# Altium integrated library TI Power Management Power Modules.IntLib: 831 symbols (part 27 of 44)
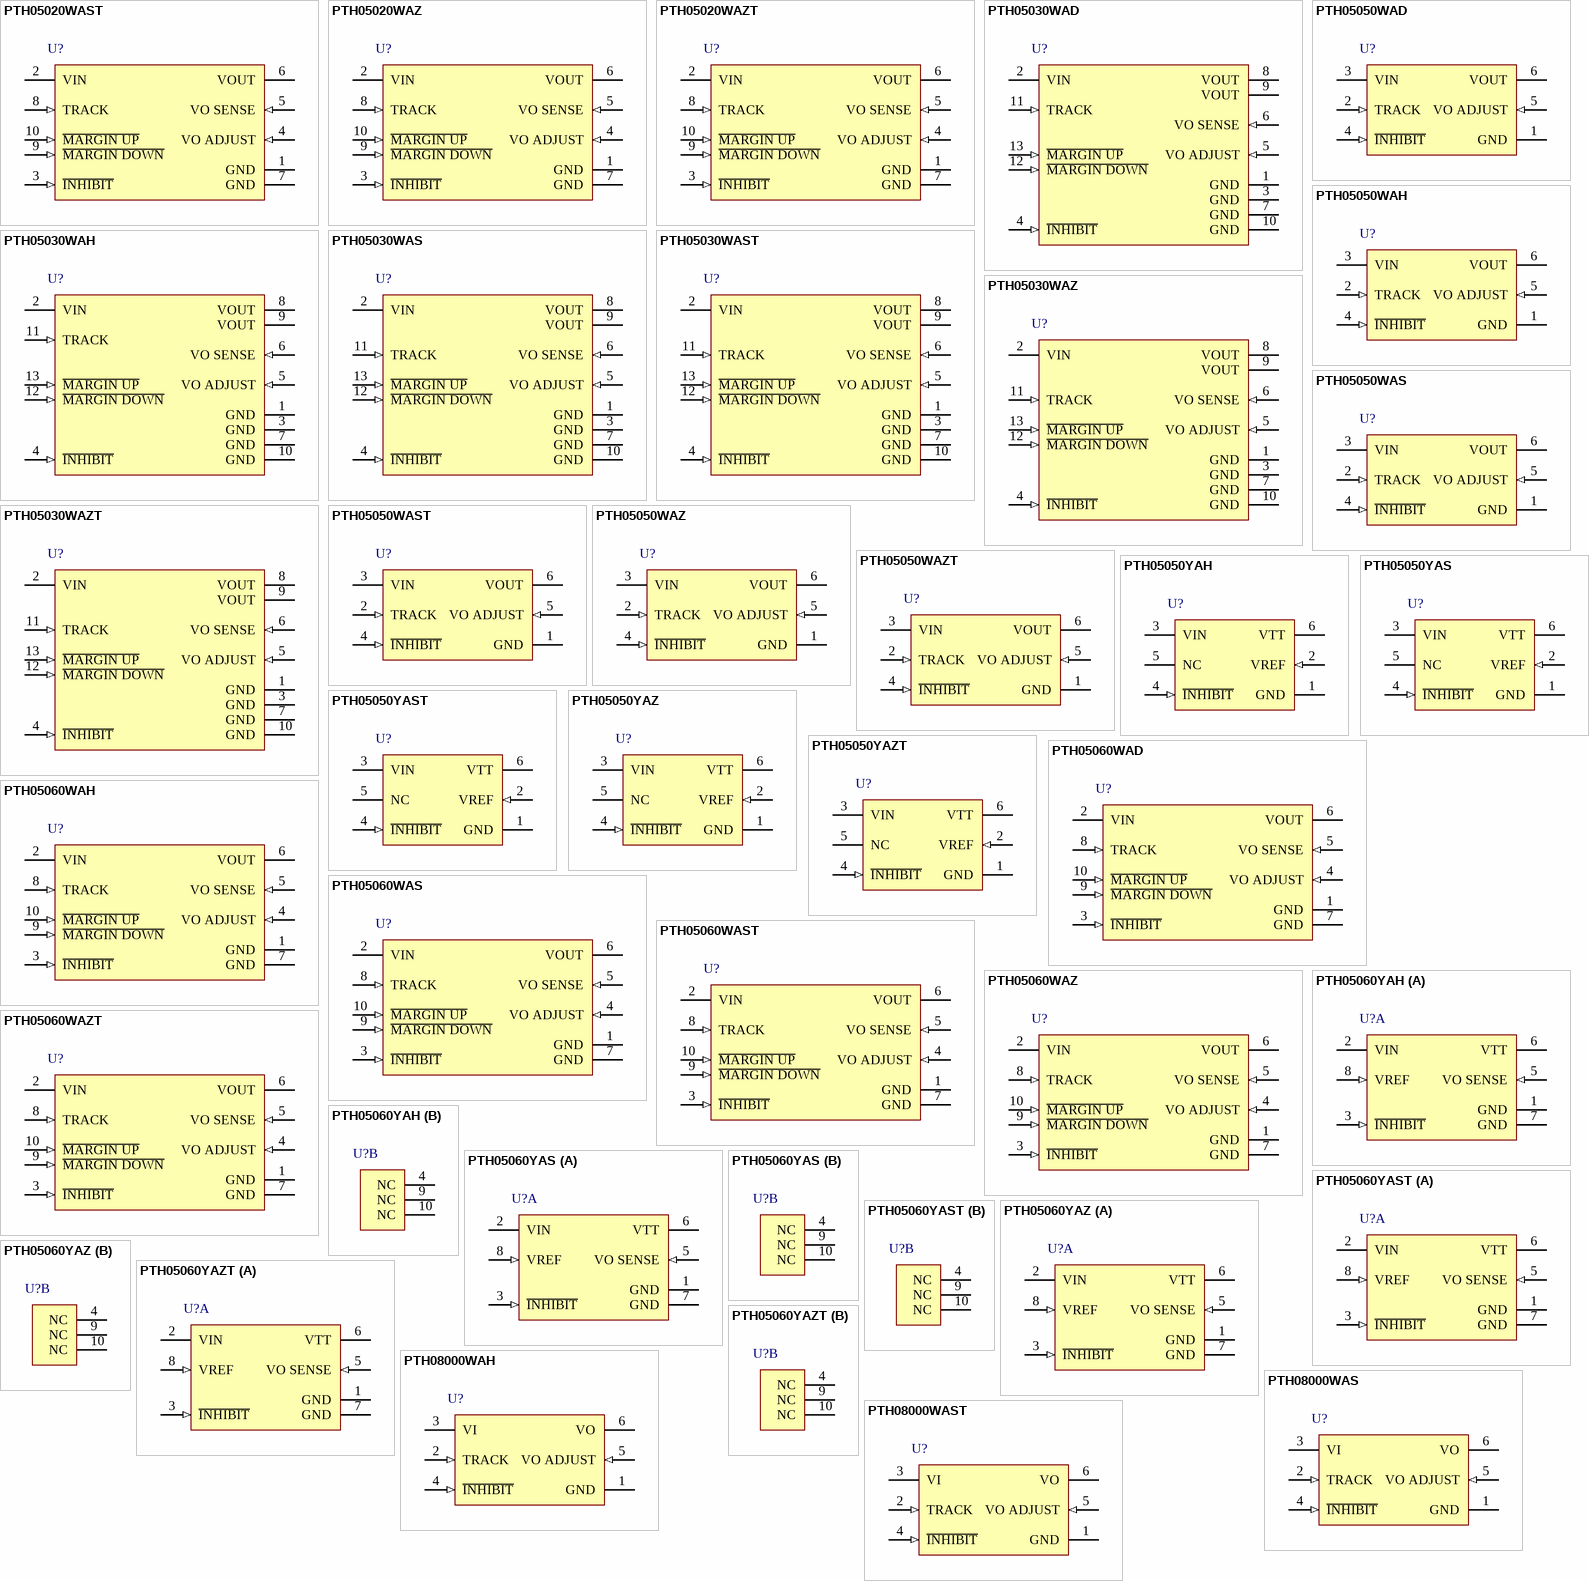
[diagram p49: symbols PTH05020WAST to PTH08000WAST]

## PTH05030WAS
designator U?
30 A, 5 V Input Wide-Output Adjust Plug-in Power Module, -40 to 85 degC, 13-pin Module (EUN13); Manufacturer: Texas Instruments; PartNumber: PTH05030WAS; Eco-Plan: TBD; Iout(Max)(A): 30; Regulated Outputs(#): 1; SubFamily: Non-Isolated POL; Vin(Max)(V): 5.5; Vin(Min)(V): 4.5; VO Adjustable: TRUE; Vout(Max)(V): 3.6; Vout(Min)(V): 0.8; DatasheetVersion: SLTS210B; PackageVersion: 4204989/B; PackageReference: EUN13; PackageDescription: 13-Pin Plastic Special Shape. Body 28.45 x 34.8 mm; Supplier 1: Digi-Key; Supplier Part Number 1: 296-20412-ND; Supplier 2: Farnell; Supplier Part Number 2: 1103296; Supplier 3: Newark; Supplier Part Number 3: 01J0635; Supplier 4: Mouser; Supplier Part Number 4: 595-PTH05030WAS; Mounting Technology: Surface Mount; ComponentLink1Description: Manufacturer URL; ComponentLink1URL: http://www.ti.com/; ComponentLink2Description: Datasheet; ComponentLink2URL: http://www.ti.com/general/docs/lit/getliterature.tsp?genericPartNumber=PTH05030W&fileType=pdf; ComponentLink3Description: Package Specification; ComponentLink3URL: http://www.ti.com/lit/ml/mpds135a/mpds135a.pdf; ComponentLink4Description: URL Link1; ComponentLink4URL: Samples URL:http://www.ti.com/product/pth05030w#samples
footprint TI-EUN13_V (Module, 13-Leads, Body 34.8x28.45mm)
pins: 1 GND (power) "This is the common ground connection for the Vin and Vout power connections. It is also the 0 VDC reference for the control inputs.", 2 VIN (power) "The positive input voltage power node to the module, which is referenced to common GND.", 3 GND (power) "This is the common ground connection for the Vin and Vout power connections. It is also the 0 VDC reference for the control inputs.", 4 ~{INHIBIT} (in) "The Inhibit pin is an open-collector/drain negative logic input that is referenced to GND. Applying a lowlevel ground signal to this input disables the module’s output and turns off the output voltage. When the Inhibit (See Datasheet)", 5 VO ADJUST (in) "A 0.1 W 1 % resistor must be directly connected between this pin and pin 7 (GND) to set the output voltage to a value higher than 0.8 V. The temperature stability of the resistor should be 100 ppm/degreesC (or better). The (See Datasheet)", 6 VO SENSE (in) "The sense input allows the regulation circuit to compensate for voltage drop between the module and the load. For optimal voltage accuracy Vo Sense should be connected to Vout. It can also be left disconnected.", 7 GND (power) "This is the common ground connection for the Vin and Vout power connections. It is also the 0 VDC reference for the control inputs.", 8 VOUT (power) "The regulated positive power output with respect to the GND node.", 9 VOUT (power) "The regulated positive power output with respect to the GND node.", 10 GND (power) "This is the common ground connection for the Vin and Vout power connections. It is also the 0 VDC reference for the control inputs.", 11 TRACK (in) "This is an analog control input that enables the output voltage to follow an external voltage. This pin becomes active typically 20 ms after the input voltage has been applied, and allows direct control of the output voltage (See Datasheet)", 12 ~{MARGIN DOWN} (in) "When this input is asserted to GND, the output voltage is decreased by 5% from the nominal. The input requires an open-collector (open-drain) interface. It is not TTL compatible. A lower percent change can be accomodated (See Datasheet)", 13 ~{MARGIN UP} (in) "When this input is asserted to GND, the output voltage is increased by 5%. The input requires an open-collector (open-drain) interface. It is not TTL compatible. The percent change can be reduced with a series resistor. For (See Datasheet)"

## PTH05030WAST
designator U?
30 A, 5 V Input Wide-Output Adjust Plug-in Power Module, -40 to 85 degC, 13-pin Module (EUN13); Manufacturer: Texas Instruments; PartNumber: PTH05030WAST; Eco-Plan: TBD; Iout(Max)(A): 30; Regulated Outputs(#): 1; SubFamily: Non-Isolated POL; Vin(Max)(V): 5.5; Vin(Min)(V): 4.5; VO Adjustable: TRUE; Vout(Max)(V): 3.6; Vout(Min)(V): 0.8; DatasheetVersion: SLTS210B; PackageVersion: 4204989/B; PackageReference: EUN13; PackageDescription: 13-Pin Plastic Special Shape. Body 28.45 x 34.8 mm; Supplier 1: Digi-Key; Supplier Part Number 1: PTH05030WAST-ND; Supplier 2: Newark; Supplier Part Number 2: 01J0636; Supplier 3: Mouser; Supplier Part Number 3: 595-PTH05030WAST; Mounting Technology: Surface Mount; ComponentLink1Description: Manufacturer URL; ComponentLink1URL: http://www.ti.com/; ComponentLink2Description: Datasheet; ComponentLink2URL: http://www.ti.com/general/docs/lit/getliterature.tsp?genericPartNumber=PTH05030W&fileType=pdf; ComponentLink3Description: Package Specification; ComponentLink3URL: http://www.ti.com/lit/ml/mpds135a/mpds135a.pdf; ComponentLink4Description: URL Link1; ComponentLink4URL: Samples URL:http://www.ti.com/product/pth05030w#samples
footprint TI-EUN13_V (Module, 13-Leads, Body 34.8x28.45mm)
pins: 1 GND (power) "This is the common ground connection for the Vin and Vout power connections. It is also the 0 VDC reference for the control inputs.", 2 VIN (power) "The positive input voltage power node to the module, which is referenced to common GND.", 3 GND (power) "This is the common ground connection for the Vin and Vout power connections. It is also the 0 VDC reference for the control inputs.", 4 ~{INHIBIT} (in) "The Inhibit pin is an open-collector/drain negative logic input that is referenced to GND. Applying a lowlevel ground signal to this input disables the module’s output and turns off the output voltage. When the Inhibit (See Datasheet)", 5 VO ADJUST (in) "A 0.1 W 1 % resistor must be directly connected between this pin and pin 7 (GND) to set the output voltage to a value higher than 0.8 V. The temperature stability of the resistor should be 100 ppm/degreesC (or better). The (See Datasheet)", 6 VO SENSE (in) "The sense input allows the regulation circuit to compensate for voltage drop between the module and the load. For optimal voltage accuracy Vo Sense should be connected to Vout. It can also be left disconnected.", 7 GND (power) "This is the common ground connection for the Vin and Vout power connections. It is also the 0 VDC reference for the control inputs.", 8 VOUT (power) "The regulated positive power output with respect to the GND node.", 9 VOUT (power) "The regulated positive power output with respect to the GND node.", 10 GND (power) "This is the common ground connection for the Vin and Vout power connections. It is also the 0 VDC reference for the control inputs.", 11 TRACK (in) "This is an analog control input that enables the output voltage to follow an external voltage. This pin becomes active typically 20 ms after the input voltage has been applied, and allows direct control of the output voltage (See Datasheet)", 12 ~{MARGIN DOWN} (in) "When this input is asserted to GND, the output voltage is decreased by 5% from the nominal. The input requires an open-collector (open-drain) interface. It is not TTL compatible. A lower percent change can be accomodated (See Datasheet)", 13 ~{MARGIN UP} (in) "When this input is asserted to GND, the output voltage is increased by 5%. The input requires an open-collector (open-drain) interface. It is not TTL compatible. The percent change can be reduced with a series resistor. For (See Datasheet)"

## PTH05030WAZ
designator U?
30 A, 5 V Input Wide-Output Adjust Plug-in Power Module, -40 to 85 degC, 13-pin Module (EUN13), Pb-Free (RoHS); Manufacturer: Texas Instruments; PartNumber: PTH05030WAZ; Iout(Max)(A): 30; Regulated Outputs(#): 1; SubFamily: Non-Isolated POL; Vin(Max)(V): 5.5; Vin(Min)(V): 4.5; VO Adjustable: TRUE; Vout(Max)(V): 3.6; Vout(Min)(V): 0.8; DatasheetVersion: SLTS210B; PackageVersion: 4204989/B; PackageReference: EUN13; PackageDescription: 13-Pin Plastic Special Shape. Body 28.45 x 34.8 mm; Supplier 1: Digi-Key; Supplier Part Number 1: 296-20413-ND; Supplier 2: Newark; Supplier Part Number 2: 37K0722; Supplier 3: Mouser; Supplier Part Number 3: 595-PTH05030WAZ; Eco-Plan: Pb-Free (RoHS); Mounting Technology: Surface Mount; ComponentLink1Description: Manufacturer URL; ComponentLink1URL: http://www.ti.com/; ComponentLink2Description: Datasheet; ComponentLink2URL: http://www.ti.com/general/docs/lit/getliterature.tsp?genericPartNumber=PTH05030W&fileType=pdf; ComponentLink3Description: Package Specification; ComponentLink3URL: http://www.ti.com/lit/ml/mpds135a/mpds135a.pdf; ComponentLink4Description: URL Link1; ComponentLink4URL: Samples URL:http://www.ti.com/product/pth05030w#samples
footprint TI-EUN13_V (Module, 13-Leads, Body 34.8x28.45mm)
pins: 1 GND (power) "This is the common ground connection for the Vin and Vout power connections. It is also the 0 VDC reference for the control inputs.", 2 VIN (power) "The positive input voltage power node to the module, which is referenced to common GND.", 3 GND (power) "This is the common ground connection for the Vin and Vout power connections. It is also the 0 VDC reference for the control inputs.", 4 ~{INHIBIT} (in) "The Inhibit pin is an open-collector/drain negative logic input that is referenced to GND. Applying a lowlevel ground signal to this input disables the module’s output and turns off the output voltage. When the Inhibit (See Datasheet)", 5 VO ADJUST (in) "A 0.1 W 1 % resistor must be directly connected between this pin and pin 7 (GND) to set the output voltage to a value higher than 0.8 V. The temperature stability of the resistor should be 100 ppm/degreesC (or better). The (See Datasheet)", 6 VO SENSE (in) "The sense input allows the regulation circuit to compensate for voltage drop between the module and the load. For optimal voltage accuracy Vo Sense should be connected to Vout. It can also be left disconnected.", 7 GND (power) "This is the common ground connection for the Vin and Vout power connections. It is also the 0 VDC reference for the control inputs.", 8 VOUT (power) "The regulated positive power output with respect to the GND node.", 9 VOUT (power) "The regulated positive power output with respect to the GND node.", 10 GND (power) "This is the common ground connection for the Vin and Vout power connections. It is also the 0 VDC reference for the control inputs.", 11 TRACK (in) "This is an analog control input that enables the output voltage to follow an external voltage. This pin becomes active typically 20 ms after the input voltage has been applied, and allows direct control of the output voltage (See Datasheet)", 12 ~{MARGIN DOWN} (in) "When this input is asserted to GND, the output voltage is decreased by 5% from the nominal. The input requires an open-collector (open-drain) interface. It is not TTL compatible. A lower percent change can be accomodated (See Datasheet)", 13 ~{MARGIN UP} (in) "When this input is asserted to GND, the output voltage is increased by 5%. The input requires an open-collector (open-drain) interface. It is not TTL compatible. The percent change can be reduced with a series resistor. For (See Datasheet)"

## PTH05030WAZT
designator U?
30 A, 5 V Input Wide-Output Adjust Plug-in Power Module, -40 to 85 degC, 13-pin Module (EUN13), Pb-Free (RoHS); Manufacturer: Texas Instruments; PartNumber: PTH05030WAZT; Iout(Max)(A): 30; Regulated Outputs(#): 1; SubFamily: Non-Isolated POL; Vin(Max)(V): 5.5; Vin(Min)(V): 4.5; VO Adjustable: TRUE; Vout(Max)(V): 3.6; Vout(Min)(V): 0.8; DatasheetVersion: SLTS210B; PackageVersion: 4204989/B; PackageReference: EUN13; PackageDescription: 13-Pin Plastic Special Shape. Body 28.45 x 34.8 mm; Supplier 1: Digi-Key; Supplier Part Number 1: PTH05030WAZT-ND; Supplier 2: Newark; Supplier Part Number 2: 37K0723; Supplier 3: Mouser; Supplier Part Number 3: 595-PTH05030WAZT; Eco-Plan: Pb-Free (RoHS); Mounting Technology: Surface Mount; ComponentLink1Description: Manufacturer URL; ComponentLink1URL: http://www.ti.com/; ComponentLink2Description: Datasheet; ComponentLink2URL: http://www.ti.com/general/docs/lit/getliterature.tsp?genericPartNumber=PTH05030W&fileType=pdf; ComponentLink3Description: Package Specification; ComponentLink3URL: http://www.ti.com/lit/ml/mpds135a/mpds135a.pdf; ComponentLink4Description: URL Link1; ComponentLink4URL: Samples URL:http://www.ti.com/product/pth05030w#samples
footprint TI-EUN13_V (Module, 13-Leads, Body 34.8x28.45mm)
pins: 1 GND (power) "This is the common ground connection for the Vin and Vout power connections. It is also the 0 VDC reference for the control inputs.", 2 VIN (power) "The positive input voltage power node to the module, which is referenced to common GND.", 3 GND (power) "This is the common ground connection for the Vin and Vout power connections. It is also the 0 VDC reference for the control inputs.", 4 ~{INHIBIT} (in) "The Inhibit pin is an open-collector/drain negative logic input that is referenced to GND. Applying a lowlevel ground signal to this input disables the module’s output and turns off the output voltage. When the Inhibit (See Datasheet)", 5 VO ADJUST (in) "A 0.1 W 1 % resistor must be directly connected between this pin and pin 7 (GND) to set the output voltage to a value higher than 0.8 V. The temperature stability of the resistor should be 100 ppm/degreesC (or better). The (See Datasheet)", 6 VO SENSE (in) "The sense input allows the regulation circuit to compensate for voltage drop between the module and the load. For optimal voltage accuracy Vo Sense should be connected to Vout. It can also be left disconnected.", 7 GND (power) "This is the common ground connection for the Vin and Vout power connections. It is also the 0 VDC reference for the control inputs.", 8 VOUT (power) "The regulated positive power output with respect to the GND node.", 9 VOUT (power) "The regulated positive power output with respect to the GND node.", 10 GND (power) "This is the common ground connection for the Vin and Vout power connections. It is also the 0 VDC reference for the control inputs.", 11 TRACK (in) "This is an analog control input that enables the output voltage to follow an external voltage. This pin becomes active typically 20 ms after the input voltage has been applied, and allows direct control of the output voltage (See Datasheet)", 12 ~{MARGIN DOWN} (in) "When this input is asserted to GND, the output voltage is decreased by 5% from the nominal. The input requires an open-collector (open-drain) interface. It is not TTL compatible. A lower percent change can be accomodated (See Datasheet)", 13 ~{MARGIN UP} (in) "When this input is asserted to GND, the output voltage is increased by 5%. The input requires an open-collector (open-drain) interface. It is not TTL compatible. The percent change can be reduced with a series resistor. For (See Datasheet)"

## PTH05050WAD
designator U?
6 A, 5 V Input Non-Isolated Wide Adjust Module with Auto-Track, -40 to 85 degC, 6-pin Module (EUU6), Pb-Free (RoHS); Manufacturer: Texas Instruments; PartNumber: PTH05050WAD; Iout(Max)(A): 6; Regulated Outputs(#): 1; SubFamily: Non-Isolated POL; Vin(Max)(V): 5.5; Vin(Min)(V): 4.5; VO Adjustable: TRUE; Vout(Max)(V): 3.6; Vout(Min)(V): 0.8; DatasheetVersion: SLTS213E; PackageVersion: 4205246-4/C; PackageReference: EUU6; PackageDescription: 6-Pin Plastic Special Shape, Body 12.57 x 22.1 mm; Supplier 1: Digi-Key; Supplier Part Number 1: PTH05050WADTI-ND; Supplier 2: Farnell; Supplier Part Number 2: 1103286; Supplier 3: Newark; Supplier Part Number 3: 97K7865; Supplier 4: Newark; Supplier Part Number 4: 58K6006; Supplier 5: Mouser; Supplier Part Number 5: 595-PTH05050WAD; Eco-Plan: Pb-Free (RoHS); Mounting Technology: Through Hole; ComponentLink1Description: Manufacturer URL; ComponentLink1URL: http://www.ti.com/; ComponentLink2Description: Datasheet; ComponentLink2URL: http://www.ti.com/general/docs/lit/getliterature.tsp?genericPartNumber=PTH05050W&fileType=pdf; ComponentLink3Description: Package Specification; ComponentLink3URL: http://www.ti.com/lit/ml/mpds142b/mpds142b.pdf; ComponentLink4Description: URL Link1; ComponentLink4URL: Samples URL:http://www.ti.com/product/pth05050w#samples
footprint TI-EUU6_V (Module, 6-Leads, Body 22.1.12x12.57mm)
pins: 1 GND (power) "This is the common ground connection for the VI and VO power connections. It is also the 0-VDC reference for the control inputs.", 2 TRACK (in) "This is an analog control input that enables the output voltage to follow an external voltage. This pin becomes active typically 20 ms after the input voltage has been applied, and allows direct control of the output voltage (See Datasheet)", 3 VIN (power) "The positive input voltage power node to the module, which is referenced to common GND.", 4 ~{INHIBIT} (in) "The Inhibit pin is an open-collector/drain negative logic input that is referenced to GND. Applying a low-level ground signal to this input disables the module’s output and turns off the output voltage. When the Inhibit (See Datasheet)", 5 VO ADJUST (in) "A 0.05 W 1% resistor must be directly connected between this pin and (GND) to set the output voltage to a value higher than 0.8 V. The temperature stability of the resistor should be 100 ppm/degreesC (or better). The set (See Datasheet)", 6 VOUT (power) "The regulated positive power output with respect to the GND node."

## PTH05050WAH
designator U?
6 A, 5 V Input Non-Isolated Wide Adjust Module with Auto-Track, -40 to 85 degC, 6-pin Module (EUU6), Pb-Free (RoHS); Manufacturer: Texas Instruments; PartNumber: PTH05050WAH; Iout(Max)(A): 6; Regulated Outputs(#): 1; SubFamily: Non-Isolated POL; Vin(Max)(V): 5.5; Vin(Min)(V): 4.5; VO Adjustable: TRUE; Vout(Max)(V): 3.6; Vout(Min)(V): 0.8; DatasheetVersion: SLTS213E; PackageVersion: 4205246-4/C; PackageReference: EUU6; PackageDescription: 6-Pin Plastic Special Shape, Body 12.57 x 22.1 mm; Supplier 1: Digi-Key; Supplier Part Number 1: 296-20414-ND; Supplier 2: Farnell; Supplier Part Number 2: 1212256; Supplier 3: Newark; Supplier Part Number 3: 83K8771; Supplier 4: Mouser; Supplier Part Number 4: 595-PTH05050WAH; Eco-Plan: Pb-Free (RoHS); Mounting Technology: Through Hole; ComponentLink1Description: Manufacturer URL; ComponentLink1URL: http://www.ti.com/; ComponentLink2Description: Datasheet; ComponentLink2URL: http://www.ti.com/general/docs/lit/getliterature.tsp?genericPartNumber=PTH05050W&fileType=pdf; ComponentLink3Description: Package Specification; ComponentLink3URL: http://www.ti.com/lit/ml/mpds142b/mpds142b.pdf; ComponentLink4Description: URL Link1; ComponentLink4URL: Samples URL:http://www.ti.com/product/pth05050w#samples
footprint TI-EUU6_V (Module, 6-Leads, Body 22.1.12x12.57mm)
pins: 1 GND (power) "This is the common ground connection for the VI and VO power connections. It is also the 0-VDC reference for the control inputs.", 2 TRACK (in) "This is an analog control input that enables the output voltage to follow an external voltage. This pin becomes active typically 20 ms after the input voltage has been applied, and allows direct control of the output voltage (See Datasheet)", 3 VIN (power) "The positive input voltage power node to the module, which is referenced to common GND.", 4 ~{INHIBIT} (in) "The Inhibit pin is an open-collector/drain negative logic input that is referenced to GND. Applying a low-level ground signal to this input disables the module’s output and turns off the output voltage. When the Inhibit (See Datasheet)", 5 VO ADJUST (in) "A 0.05 W 1% resistor must be directly connected between this pin and (GND) to set the output voltage to a value higher than 0.8 V. The temperature stability of the resistor should be 100 ppm/degreesC (or better). The set (See Datasheet)", 6 VOUT (power) "The regulated positive power output with respect to the GND node."

## PTH05050WAS
designator U?
6 A, 5 V Input Non-Isolated Wide Adjust Module with Auto-Track, -40 to 85 degC, 6-pin Module (EUV6); Manufacturer: Texas Instruments; PartNumber: PTH05050WAS; Eco-Plan: TBD; Iout(Max)(A): 6; Regulated Outputs(#): 1; SubFamily: Non-Isolated POL; Vin(Max)(V): 5.5; Vin(Min)(V): 4.5; VO Adjustable: TRUE; Vout(Max)(V): 3.6; Vout(Min)(V): 0.8; DatasheetVersion: SLTS213E; PackageVersion: 4205247-4/C; PackageReference: EUV6; PackageDescription: 6-Pin Plastic Special Shape, Body 12.57 x 22.1 mm; Supplier 1: Digi-Key; Supplier Part Number 1: 296-20415-ND; Supplier 2: Newark; Supplier Part Number 2: 90H3323; Supplier 3: Mouser; Supplier Part Number 3: 595-PTH05050WAS; Mounting Technology: Surface Mount; ComponentLink1Description: Manufacturer URL; ComponentLink1URL: http://www.ti.com/; ComponentLink2Description: Datasheet; ComponentLink2URL: http://www.ti.com/general/docs/lit/getliterature.tsp?genericPartNumber=PTH05050W&fileType=pdf; ComponentLink3Description: Package Specification; ComponentLink3URL: http://www.ti.com/lit/ml/mpds143b/mpds143b.pdf; ComponentLink4Description: URL Link1; ComponentLink4URL: Samples URL:http://www.ti.com/product/pth05050w#samples
footprint TI-EUV6_V (Module, 6-Leads, Body 22.1x12.57mm)
pins: 1 GND (power) "This is the common ground connection for the VI and VO power connections. It is also the 0-VDC reference for the control inputs.", 2 TRACK (in) "This is an analog control input that enables the output voltage to follow an external voltage. This pin becomes active typically 20 ms after the input voltage has been applied, and allows direct control of the output voltage (See Datasheet)", 3 VIN (power) "The positive input voltage power node to the module, which is referenced to common GND.", 4 ~{INHIBIT} (in) "The Inhibit pin is an open-collector/drain negative logic input that is referenced to GND. Applying a low-level ground signal to this input disables the module’s output and turns off the output voltage. When the Inhibit (See Datasheet)", 5 VO ADJUST (in) "A 0.05 W 1% resistor must be directly connected between this pin and (GND) to set the output voltage to a value higher than 0.8 V. The temperature stability of the resistor should be 100 ppm/degreesC (or better). The set (See Datasheet)", 6 VOUT (power) "The regulated positive power output with respect to the GND node."

## PTH05050WAST
designator U?
6 A, 5 V Input Non-Isolated Wide Adjust Module with Auto-Track, -40 to 85 degC, 6-pin Module (EUV6); Manufacturer: Texas Instruments; PartNumber: PTH05050WAST; Eco-Plan: TBD; Iout(Max)(A): 6; Regulated Outputs(#): 1; SubFamily: Non-Isolated POL; Vin(Max)(V): 5.5; Vin(Min)(V): 4.5; VO Adjustable: TRUE; Vout(Max)(V): 3.6; Vout(Min)(V): 0.8; DatasheetVersion: SLTS213E; PackageVersion: 4205247-4/C; PackageReference: EUV6; PackageDescription: 6-Pin Plastic Special Shape, Body 12.57 x 22.1 mm; Supplier 1: Digi-Key; Supplier Part Number 1: PTH05050WAST-ND; Supplier 2: Newark; Supplier Part Number 2: 01J0637; Supplier 3: Mouser; Supplier Part Number 3: 595-PTH05050WAST; Mounting Technology: Surface Mount; ComponentLink1Description: Manufacturer URL; ComponentLink1URL: http://www.ti.com/; ComponentLink2Description: Datasheet; ComponentLink2URL: http://www.ti.com/general/docs/lit/getliterature.tsp?genericPartNumber=PTH05050W&fileType=pdf; ComponentLink3Description: Package Specification; ComponentLink3URL: http://www.ti.com/lit/ml/mpds143b/mpds143b.pdf; ComponentLink4Description: URL Link1; ComponentLink4URL: Samples URL:http://www.ti.com/product/pth05050w#samples
footprint TI-EUV6_V (Module, 6-Leads, Body 22.1x12.57mm)
pins: 1 GND (power) "This is the common ground connection for the VI and VO power connections. It is also the 0-VDC reference for the control inputs.", 2 TRACK (in) "This is an analog control input that enables the output voltage to follow an external voltage. This pin becomes active typically 20 ms after the input voltage has been applied, and allows direct control of the output voltage (See Datasheet)", 3 VIN (power) "The positive input voltage power node to the module, which is referenced to common GND.", 4 ~{INHIBIT} (in) "The Inhibit pin is an open-collector/drain negative logic input that is referenced to GND. Applying a low-level ground signal to this input disables the module’s output and turns off the output voltage. When the Inhibit (See Datasheet)", 5 VO ADJUST (in) "A 0.05 W 1% resistor must be directly connected between this pin and (GND) to set the output voltage to a value higher than 0.8 V. The temperature stability of the resistor should be 100 ppm/degreesC (or better). The set (See Datasheet)", 6 VOUT (power) "The regulated positive power output with respect to the GND node."

## PTH05050WAZ
designator U?
6 A, 5 V Input Non-Isolated Wide Adjust Module with Auto-Track, -40 to 85 degC, 6-pin Module (EUV6), Pb-Free (RoHS); Manufacturer: Texas Instruments; PartNumber: PTH05050WAZ; Iout(Max)(A): 6; Regulated Outputs(#): 1; SubFamily: Non-Isolated POL; Vin(Max)(V): 5.5; Vin(Min)(V): 4.5; VO Adjustable: TRUE; Vout(Max)(V): 3.6; Vout(Min)(V): 0.8; DatasheetVersion: SLTS213E; PackageVersion: 4205247-4/C; PackageReference: EUV6; PackageDescription: 6-Pin Plastic Special Shape, Body 12.57 x 22.1 mm; Supplier 1: Digi-Key; Supplier Part Number 1: 296-20416-ND; Supplier 2: Farnell; Supplier Part Number 2: 1103287; Supplier 3: Newark; Supplier Part Number 3: 37K0724; Supplier 4: Mouser; Supplier Part Number 4: 595-PTH05050WAZ; Eco-Plan: Pb-Free (RoHS); Mounting Technology: Surface Mount; ComponentLink1Description: Manufacturer URL; ComponentLink1URL: http://www.ti.com/; ComponentLink2Description: Datasheet; ComponentLink2URL: http://www.ti.com/general/docs/lit/getliterature.tsp?genericPartNumber=PTH05050W&fileType=pdf; ComponentLink3Description: Package Specification; ComponentLink3URL: http://www.ti.com/lit/ml/mpds143b/mpds143b.pdf; ComponentLink4Description: URL Link1; ComponentLink4URL: Samples URL:http://www.ti.com/product/pth05050w#samples
footprint TI-EUV6_V (Module, 6-Leads, Body 22.1x12.57mm)
pins: 1 GND (power) "This is the common ground connection for the VI and VO power connections. It is also the 0-VDC reference for the control inputs.", 2 TRACK (in) "This is an analog control input that enables the output voltage to follow an external voltage. This pin becomes active typically 20 ms after the input voltage has been applied, and allows direct control of the output voltage (See Datasheet)", 3 VIN (power) "The positive input voltage power node to the module, which is referenced to common GND.", 4 ~{INHIBIT} (in) "The Inhibit pin is an open-collector/drain negative logic input that is referenced to GND. Applying a low-level ground signal to this input disables the module’s output and turns off the output voltage. When the Inhibit (See Datasheet)", 5 VO ADJUST (in) "A 0.05 W 1% resistor must be directly connected between this pin and (GND) to set the output voltage to a value higher than 0.8 V. The temperature stability of the resistor should be 100 ppm/degreesC (or better). The set (See Datasheet)", 6 VOUT (power) "The regulated positive power output with respect to the GND node."

## PTH05050WAZT
designator U?
6 A, 5 V Input Non-Isolated Wide Adjust Module with Auto-Track, -40 to 85 degC, 6-pin Module (EUV6), Pb-Free (RoHS); Manufacturer: Texas Instruments; PartNumber: PTH05050WAZT; Iout(Max)(A): 6; Regulated Outputs(#): 1; SubFamily: Non-Isolated POL; Vin(Max)(V): 5.5; Vin(Min)(V): 4.5; VO Adjustable: TRUE; Vout(Max)(V): 3.6; Vout(Min)(V): 0.8; DatasheetVersion: SLTS213E; PackageVersion: 4205247-4/C; PackageReference: EUV6; PackageDescription: 6-Pin Plastic Special Shape, Body 12.57 x 22.1 mm; Supplier 1: Digi-Key; Supplier Part Number 1: PTH05050WAZT-ND; Supplier 2: Newark; Supplier Part Number 2: 37K0725; Supplier 3: Mouser; Supplier Part Number 3: 595-PTH05050WAZT; Eco-Plan: Pb-Free (RoHS); Mounting Technology: Surface Mount; ComponentLink1Description: Manufacturer URL; ComponentLink1URL: http://www.ti.com/; ComponentLink2Description: Datasheet; ComponentLink2URL: http://www.ti.com/general/docs/lit/getliterature.tsp?genericPartNumber=PTH05050W&fileType=pdf; ComponentLink3Description: Package Specification; ComponentLink3URL: http://www.ti.com/lit/ml/mpds143b/mpds143b.pdf; ComponentLink4Description: URL Link1; ComponentLink4URL: Samples URL:http://www.ti.com/product/pth05050w#samples
footprint TI-EUV6_V (Module, 6-Leads, Body 22.1x12.57mm)
pins: 1 GND (power) "This is the common ground connection for the VI and VO power connections. It is also the 0-VDC reference for the control inputs.", 2 TRACK (in) "This is an analog control input that enables the output voltage to follow an external voltage. This pin becomes active typically 20 ms after the input voltage has been applied, and allows direct control of the output voltage (See Datasheet)", 3 VIN (power) "The positive input voltage power node to the module, which is referenced to common GND.", 4 ~{INHIBIT} (in) "The Inhibit pin is an open-collector/drain negative logic input that is referenced to GND. Applying a low-level ground signal to this input disables the module’s output and turns off the output voltage. When the Inhibit (See Datasheet)", 5 VO ADJUST (in) "A 0.05 W 1% resistor must be directly connected between this pin and (GND) to set the output voltage to a value higher than 0.8 V. The temperature stability of the resistor should be 100 ppm/degreesC (or better). The set (See Datasheet)", 6 VOUT (power) "The regulated positive power output with respect to the GND node."

## PTH05050YAH
designator U?
6 A, 5 V Input Bus Termination Power Module for DDR / QDR Memory, -40 to 85 degC, 6-pin Module (EUU6), Pb-Free (RoHS); Manufacturer: Texas Instruments; PartNumber: PTH05050YAH; Iout(Max)(A): 6; Regulated Outputs(#): 1; SubFamily: Non-Isolated POL; Vin(Max)(V): 5.5; Vin(Min)(V): 4.5; Vout(Max)(V): 1.8; Vout(Min)(V): 0.55; DatasheetVersion: SLTS221A; PackageVersion: 4205246-4/C; PackageReference: EUU6; PackageDescription: 6-Pin Plastic Special Shape, Body 12.57 x 22.1 mm; Supplier 1: Digi-Key; Supplier Part Number 1: 296-20417-ND; Supplier 2: Newark; Supplier Part Number 2: 01J0638; Supplier 3: Mouser; Supplier Part Number 3: 595-PTH05050YAH; Eco-Plan: Pb-Free (RoHS); Mounting Technology: Through Hole; ComponentLink1Description: Manufacturer URL; ComponentLink1URL: http://www.ti.com/; ComponentLink2Description: Datasheet; ComponentLink2URL: http://www.ti.com/general/docs/lit/getliterature.tsp?genericPartNumber=PTH05050Y&fileType=pdf; ComponentLink3Description: Package Specification; ComponentLink3URL: http://www.ti.com/lit/ml/mpds142b/mpds142b.pdf; ComponentLink4Description: URL Link1; ComponentLink4URL: Samples URL:http://www.ti.com/product/pth05050y#samples
footprint TI-EUU6_V (Module, 6-Leads, Body 22.1.12x12.57mm)
pins: 1 GND (power) "This is the common ground connection for the VIN and VTT power connections. It is also the 0-VDC reference for the control inputs.", 2 VREF (in) "The module senses the voltage at this input to regulate the output voltage, VTT. The voltage at VREF is also the reference voltage for the system bus receiver comparators. It is normally set to precisely half the bus driver (See Datasheet)", 3 VIN (power) "The positive input voltage power node to the module, which is referenced to common GND.", 4 ~{INHIBIT} (in) "The Inhibit pin is an open-collector/drain negative logic input that is referenced to GND. Applying a low-level ground signal to this input turns off the output voltage, VTT. Although the module is inhibited, a voltage, VDDQ (See Datasheet)", 5 NC "No Connection", 6 VTT (power) "This is the regulated power output from the module with respect to the GND node, and the tracking termination supply for the application data and address buses. It is precisely regulated to the voltage applied to the (See Datasheet)"

## PTH05050YAS
designator U?
6 A, 5 V Input Bus Termination Power Module for DDR / QDR Memory, -40 to 85 degC, 6-pin Module (EUV6); Manufacturer: Texas Instruments; PartNumber: PTH05050YAS; Eco-Plan: TBD; Iout(Max)(A): 6; Regulated Outputs(#): 1; SubFamily: Non-Isolated POL; Vin(Max)(V): 5.5; Vin(Min)(V): 4.5; Vout(Max)(V): 1.8; Vout(Min)(V): 0.55; DatasheetVersion: SLTS221A; PackageVersion: 4205247-4/C; PackageReference: EUV6; PackageDescription: 6-Pin Plastic Special Shape, Body 12.57 x 22.1 mm; Supplier 1: Digi-Key; Supplier Part Number 1: 296-20418-ND; Supplier 2: Newark; Supplier Part Number 2: 01J0639; Supplier 3: Mouser; Supplier Part Number 3: 595-PTH05050YAS; Mounting Technology: Surface Mount; ComponentLink1Description: Manufacturer URL; ComponentLink1URL: http://www.ti.com/; ComponentLink2Description: Datasheet; ComponentLink2URL: http://www.ti.com/general/docs/lit/getliterature.tsp?genericPartNumber=PTH05050Y&fileType=pdf; ComponentLink3Description: Package Specification; ComponentLink3URL: http://www.ti.com/lit/ml/mpds143b/mpds143b.pdf; ComponentLink4Description: URL Link1; ComponentLink4URL: Samples URL:http://www.ti.com/product/pth05050y#samples
footprint TI-EUV6_V (Module, 6-Leads, Body 22.1x12.57mm)
pins: 1 GND (power) "This is the common ground connection for the VIN and VTT power connections. It is also the 0-VDC reference for the control inputs.", 2 VREF (in) "The module senses the voltage at this input to regulate the output voltage, VTT. The voltage at VREF is also the reference voltage for the system bus receiver comparators. It is normally set to precisely half the bus driver (See Datasheet)", 3 VIN (power) "The positive input voltage power node to the module, which is referenced to common GND.", 4 ~{INHIBIT} (in) "The Inhibit pin is an open-collector/drain negative logic input that is referenced to GND. Applying a low-level ground signal to this input turns off the output voltage, VTT. Although the module is inhibited, a voltage, VDDQ (See Datasheet)", 5 NC "No Connection", 6 VTT (power) "This is the regulated power output from the module with respect to the GND node, and the tracking termination supply for the application data and address buses. It is precisely regulated to the voltage applied to the (See Datasheet)"

## PTH05050YAST
designator U?
6 A, 5 V Input Bus Termination Power Module for DDR / QDR Memory, -40 to 85 degC, 6-pin Module (EUV6); Manufacturer: Texas Instruments; PartNumber: PTH05050YAST; Eco-Plan: TBD; Iout(Max)(A): 6; Regulated Outputs(#): 1; SubFamily: Non-Isolated POL; Vin(Max)(V): 5.5; Vin(Min)(V): 4.5; Vout(Max)(V): 1.8; Vout(Min)(V): 0.55; DatasheetVersion: SLTS221A; PackageVersion: 4205247-4/C; PackageReference: EUV6; PackageDescription: 6-Pin Plastic Special Shape, Body 12.57 x 22.1 mm; Supplier 1: Digi-Key; Supplier Part Number 1: PTH05050YAST-ND; Supplier 2: Mouser; Supplier Part Number 2: 595-PTH05050YAST; Mounting Technology: Surface Mount; ComponentLink1Description: Manufacturer URL; ComponentLink1URL: http://www.ti.com/; ComponentLink2Description: Datasheet; ComponentLink2URL: http://www.ti.com/general/docs/lit/getliterature.tsp?genericPartNumber=PTH05050Y&fileType=pdf; ComponentLink3Description: Package Specification; ComponentLink3URL: http://www.ti.com/lit/ml/mpds143b/mpds143b.pdf; ComponentLink4Description: URL Link1; ComponentLink4URL: Samples URL:http://www.ti.com/product/pth05050y#samples
footprint TI-EUV6_V (Module, 6-Leads, Body 22.1x12.57mm)
pins: 1 GND (power) "This is the common ground connection for the VIN and VTT power connections. It is also the 0-VDC reference for the control inputs.", 2 VREF (in) "The module senses the voltage at this input to regulate the output voltage, VTT. The voltage at VREF is also the reference voltage for the system bus receiver comparators. It is normally set to precisely half the bus driver (See Datasheet)", 3 VIN (power) "The positive input voltage power node to the module, which is referenced to common GND.", 4 ~{INHIBIT} (in) "The Inhibit pin is an open-collector/drain negative logic input that is referenced to GND. Applying a low-level ground signal to this input turns off the output voltage, VTT. Although the module is inhibited, a voltage, VDDQ (See Datasheet)", 5 NC "No Connection", 6 VTT (power) "This is the regulated power output from the module with respect to the GND node, and the tracking termination supply for the application data and address buses. It is precisely regulated to the voltage applied to the (See Datasheet)"

## PTH05050YAZ
designator U?
6 A, 5 V Input Bus Termination Power Module for DDR / QDR Memory, -40 to 85 degC, 6-pin Module (EUV6), Pb-Free (RoHS); Manufacturer: Texas Instruments; PartNumber: PTH05050YAZ; Iout(Max)(A): 6; Regulated Outputs(#): 1; SubFamily: Non-Isolated POL; Vin(Max)(V): 5.5; Vin(Min)(V): 4.5; Vout(Max)(V): 1.8; Vout(Min)(V): 0.55; DatasheetVersion: SLTS221A; PackageVersion: 4205247-4/C; PackageReference: EUV6; PackageDescription: 6-Pin Plastic Special Shape, Body 12.57 x 22.1 mm; Supplier 1: Digi-Key; Supplier Part Number 1: 296-20419-ND; Supplier 2: Newark; Supplier Part Number 2: 37K0726; Supplier 3: Mouser; Supplier Part Number 3: 595-PTH05050YAZ; Eco-Plan: Pb-Free (RoHS); Mounting Technology: Surface Mount; ComponentLink1Description: Manufacturer URL; ComponentLink1URL: http://www.ti.com/; ComponentLink2Description: Datasheet; ComponentLink2URL: http://www.ti.com/general/docs/lit/getliterature.tsp?genericPartNumber=PTH05050Y&fileType=pdf; ComponentLink3Description: Package Specification; ComponentLink3URL: http://www.ti.com/lit/ml/mpds143b/mpds143b.pdf; ComponentLink4Description: URL Link1; ComponentLink4URL: Samples URL:http://www.ti.com/product/pth05050y#samples
footprint TI-EUV6_V (Module, 6-Leads, Body 22.1x12.57mm)
pins: 1 GND (power) "This is the common ground connection for the VIN and VTT power connections. It is also the 0-VDC reference for the control inputs.", 2 VREF (in) "The module senses the voltage at this input to regulate the output voltage, VTT. The voltage at VREF is also the reference voltage for the system bus receiver comparators. It is normally set to precisely half the bus driver (See Datasheet)", 3 VIN (power) "The positive input voltage power node to the module, which is referenced to common GND.", 4 ~{INHIBIT} (in) "The Inhibit pin is an open-collector/drain negative logic input that is referenced to GND. Applying a low-level ground signal to this input turns off the output voltage, VTT. Although the module is inhibited, a voltage, VDDQ (See Datasheet)", 5 NC "No Connection", 6 VTT (power) "This is the regulated power output from the module with respect to the GND node, and the tracking termination supply for the application data and address buses. It is precisely regulated to the voltage applied to the (See Datasheet)"

## PTH05050YAZT
designator U?
6 A, 5 V Input Bus Termination Power Module for DDR / QDR Memory, -40 to 85 degC, 6-pin Module (EUV6), Pb-Free (RoHS); Manufacturer: Texas Instruments; PartNumber: PTH05050YAZT; Iout(Max)(A): 6; Regulated Outputs(#): 1; SubFamily: Non-Isolated POL; Vin(Max)(V): 5.5; Vin(Min)(V): 4.5; Vout(Max)(V): 1.8; Vout(Min)(V): 0.55; DatasheetVersion: SLTS221A; PackageVersion: 4205247-4/C; PackageReference: EUV6; PackageDescription: 6-Pin Plastic Special Shape, Body 12.57 x 22.1 mm; Supplier 1: Digi-Key; Supplier Part Number 1: PTH05050YAZT-ND; Supplier 2: Newark; Supplier Part Number 2: 37K0727; Supplier 3: Mouser; Supplier Part Number 3: 595-PTH05050YAZT; Eco-Plan: Pb-Free (RoHS); Mounting Technology: Surface Mount; ComponentLink1Description: Manufacturer URL; ComponentLink1URL: http://www.ti.com/; ComponentLink2Description: Datasheet; ComponentLink2URL: http://www.ti.com/general/docs/lit/getliterature.tsp?genericPartNumber=PTH05050Y&fileType=pdf; ComponentLink3Description: Package Specification; ComponentLink3URL: http://www.ti.com/lit/ml/mpds143b/mpds143b.pdf; ComponentLink4Description: URL Link1; ComponentLink4URL: Samples URL:http://www.ti.com/product/tps55010#samples
footprint TI-EUV6_V (Module, 6-Leads, Body 22.1x12.57mm)
pins: 1 GND (power) "This is the common ground connection for the VIN and VTT power connections. It is also the 0-VDC reference for the control inputs.", 2 VREF (in) "The module senses the voltage at this input to regulate the output voltage, VTT. The voltage at VREF is also the reference voltage for the system bus receiver comparators. It is normally set to precisely half the bus driver (See Datasheet)", 3 VIN (power) "The positive input voltage power node to the module, which is referenced to common GND.", 4 ~{INHIBIT} (in) "The Inhibit pin is an open-collector/drain negative logic input that is referenced to GND. Applying a low-level ground signal to this input turns off the output voltage, VTT. Although the module is inhibited, a voltage, VDDQ (See Datasheet)", 5 NC "No Connection", 6 VTT (power) "This is the regulated power output from the module with respect to the GND node, and the tracking termination supply for the application data and address buses. It is precisely regulated to the voltage applied to the (See Datasheet)"

## PTH05060WAD
designator U?
10 A, 5 V Input Non-Isolated Wide Adjust Module, -40 to 85 degC, 10-pin Module (EUW10), Pb-Free (RoHS); Manufacturer: Texas Instruments; PartNumber: PTH05060WAD; Iout(Max)(A): 10; Regulated Outputs(#): 1; SubFamily: Non-Isolated POL; Vin(Max)(V): 5.5; Vin(Min)(V): 4.5; VO Adjustable: TRUE; Vout(Max)(V): 3.6; Vout(Min)(V): 0.8; DatasheetVersion: SLTS216B; PackageVersion: 4205248-3/B; PackageReference: EUW10; PackageDescription: 10-Pin Plastic Special Shape, Body 15.75 x 25.27 mm; Supplier 1: Digi-Key; Supplier Part Number 1: 296-26310-ND; Supplier 2: Farnell; Supplier Part Number 2: 1103288; Supplier 3: Newark; Supplier Part Number 3: 97K7867; Supplier 4: Newark; Supplier Part Number 4: 58K6007; Supplier 5: Mouser; Supplier Part Number 5: 595-PTH05060WAD; Eco-Plan: Pb-Free (RoHS); Mounting Technology: Through Hole; ComponentLink1Description: Manufacturer URL; ComponentLink1URL: http://www.ti.com/; ComponentLink2Description: Datasheet; ComponentLink2URL: http://www.ti.com/general/docs/lit/getliterature.tsp?genericPartNumber=PTH05060W&fileType=pdf; ComponentLink3Description: Package Specification; ComponentLink3URL: http://www.ti.com/litv/pdf/mpds144a; ComponentLink4Description: URL Link1; ComponentLink4URL: Samples URL:http://www.ti.com/product/pth05060w#samples
footprint TI-EUW10_V (Module, 10-Leads, Body 25.27x15.75mm)
pins: 1 GND (power) "This is the common ground connection for the Vin and Vout power connections. It is also the 0 VDC reference for the control inputs", 2 VIN (power) "The positive input voltage power node to the module, which is referenced to common GND.", 3 ~{INHIBIT} (in) "The Inhibit pin is an open-collector/drain negative logic input that is referenced to GND. Applying a lowlevel ground signal to this input disables the module’s output and turns off the output voltage. When the Inhibit (See Datasheet)", 4 VO ADJUST (in) "A 0.1 W 1 % resistor must be directly connected between this pin and pin 7 (GND) to set the output voltage to a value higher than 0.8 V. The temperature stability of the resistor should be 100 ppm/degreesC (or better). The (See Datasheet)", 5 VO SENSE (in) "The sense input allows the regulation circuit to compensate for voltage drop between the module and the load. For optimal voltage accuracy Vo Sense should be connected to Vout. It can also be left disconnected.", 6 VOUT (power) "The regulated positive power output with respect to the GND node.", 7 GND (power) "This is the common ground connection for the Vin and Vout power connections. It is also the 0 VDC reference for the control inputs.", 8 TRACK (in) "This is an analog control input that enables the output voltage to follow an external voltage. This pin becomes active typically 20 ms after the input voltage has been applied, and allows direct control of the output voltage (See Datasheet)", 9 ~{MARGIN DOWN} (in) "When this input is asserted to GND, the output voltage is decreased by 5% from the nominal. The input requires an open-collector (open-drain) interface. It is not TTL compatible. A lower percent change can be accomodated (See Datasheet)", 10 ~{MARGIN UP} (in) "When this input is asserted to GND, the output voltage is increased by 5%. The input requires an open-collector (open-drain) interface. It is not TTL compatible. The percent change can be reduced with a series resistor. For (See Datasheet)"

## PTH05060WAH
designator U?
10 A, 5 V Input Non-Isolated Wide Adjust Module, -40 to 85 degC, 10-pin Module (EUW10), Pb-Free (RoHS); Manufacturer: Texas Instruments; PartNumber: PTH05060WAH; Iout(Max)(A): 10; Regulated Outputs(#): 1; SubFamily: Non-Isolated POL; Vin(Max)(V): 5.5; Vin(Min)(V): 4.5; VO Adjustable: TRUE; Vout(Max)(V): 3.6; Vout(Min)(V): 0.8; DatasheetVersion: SLTS216B; PackageVersion: 4205248-3/B; PackageReference: EUW10; PackageDescription: 10-Pin Plastic Special Shape, Body 15.75 x 25.27 mm; Supplier 1: Digi-Key; Supplier Part Number 1: 296-20420-ND; Supplier 2: Newark; Supplier Part Number 2: 80K6127; Supplier 3: Mouser; Supplier Part Number 3: 595-PTH05060WAH; Eco-Plan: Pb-Free (RoHS); Mounting Technology: Through Hole; ComponentLink1Description: Manufacturer URL; ComponentLink1URL: http://www.ti.com/; ComponentLink2Description: Datasheet; ComponentLink2URL: http://www.ti.com/general/docs/lit/getliterature.tsp?genericPartNumber=PTH05060W&fileType=pdf; ComponentLink3Description: Package Specification; ComponentLink3URL: http://www.ti.com/litv/pdf/mpds144a; ComponentLink4Description: URL Link1; ComponentLink4URL: Samples URL:http://www.ti.com/product/pth05060w#samples
footprint TI-EUW10_V (Module, 10-Leads, Body 25.27x15.75mm)
pins: 1 GND (power) "This is the common ground connection for the Vin and Vout power connections. It is also the 0 VDC reference for the control inputs", 2 VIN (power) "The positive input voltage power node to the module, which is referenced to common GND.", 3 ~{INHIBIT} (in) "The Inhibit pin is an open-collector/drain negative logic input that is referenced to GND. Applying a lowlevel ground signal to this input disables the module’s output and turns off the output voltage. When the Inhibit (See Datasheet)", 4 VO ADJUST (in) "A 0.1 W 1 % resistor must be directly connected between this pin and pin 7 (GND) to set the output voltage to a value higher than 0.8 V. The temperature stability of the resistor should be 100 ppm/degreesC (or better). The (See Datasheet)", 5 VO SENSE (in) "The sense input allows the regulation circuit to compensate for voltage drop between the module and the load. For optimal voltage accuracy Vo Sense should be connected to Vout. It can also be left disconnected.", 6 VOUT (power) "The regulated positive power output with respect to the GND node.", 7 GND (power) "This is the common ground connection for the Vin and Vout power connections. It is also the 0 VDC reference for the control inputs.", 8 TRACK (in) "This is an analog control input that enables the output voltage to follow an external voltage. This pin becomes active typically 20 ms after the input voltage has been applied, and allows direct control of the output voltage (See Datasheet)", 9 ~{MARGIN DOWN} (in) "When this input is asserted to GND, the output voltage is decreased by 5% from the nominal. The input requires an open-collector (open-drain) interface. It is not TTL compatible. A lower percent change can be accomodated (See Datasheet)", 10 ~{MARGIN UP} (in) "When this input is asserted to GND, the output voltage is increased by 5%. The input requires an open-collector (open-drain) interface. It is not TTL compatible. The percent change can be reduced with a series resistor. For (See Datasheet)"